# Altium footprint library SamacSys.PcbLib: 9 footprints
Each footprint in its own frame and in the unit in brackets; x right, y up, seen from the top. Pads: shape width x height; smd on the part's side, far side on the other; paste and mask are expansions set on the pad; w line width, h text height; cw(c..) or ccw(c..) is an arc to the next point about the centre after c.
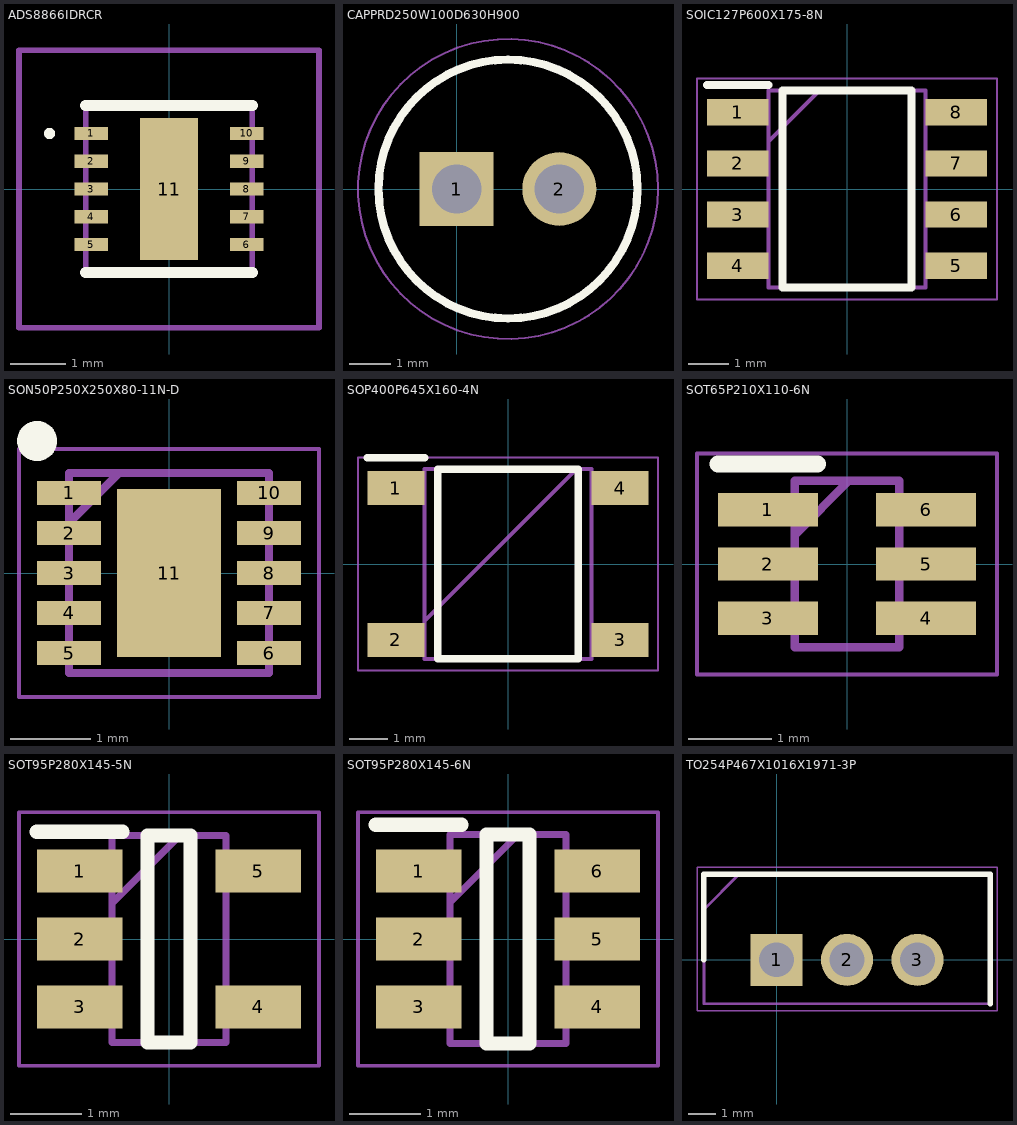
[diagram p0: the footprints below, top view; thin cyan lines are the x and y axes]

## ADS8866IDRCR [mm]
pads (11):
  rect 0.6x0.24 smd: 1(-1.4,1) 2(-1.4,0.5) 3(-1.4,0) 4(-1.4,-0.5) 5(-1.4,-1) 6(1.4,-1) 7(1.4,-0.5) 8(1.4,0) 9(1.4,0.5) 10(1.4,1)
  rect 1.05x2.55 smd: 11(0,0)
Top Overlay:
  lines w0.1: -2.2,1 cw(c-2.15,1) -2.1,1 cw(c-2.15,1) -2.2,1
  lines w0.2: -1.5,-1.5 1.5,-1.5 ; -1.5,1.5 1.5,1.5
Mechanical 13:
  lines w0.1: -1.5,-1.5 -1.5,1.5 1.5,1.5 1.5,-1.5 -1.5,-1.5
Mechanical 15:
  lines w0.1: -2.7,-2.5 -2.7,2.5 2.7,2.5 2.7,-2.5 -2.7,-2.5
3D body "ADS8866IDRCR.stp": height 1.1, standoff 0, extent -1.5,-1.5 1.5,1.5

## CAPPRD250W100D630H900 [mm]
pads (2):
  rect 1.8x1.8 hole 1.2: 1(0,0)
  round 1.8 hole 1.2: 2(2.5,0)
Top Overlay:
  circle w0.2: c1.25,0 r3.15
Mechanical 13:
  circle w0.1: c1.25,0 r3.15
Mechanical 15:
  circle w0.05: c1.25,0 r3.65
3D body "A750EK227M1CAAE016.stp": height 9, standoff -10, extent -2.15,-3.4 4.65,3.4

## SOIC127P600X175-8N [mm]
pads (8):
  rect 1.525x0.65 smd: 1(-2.712,1.905) 2(-2.712,0.635) 3(-2.712,-0.635) 4(-2.712,-1.905) 5(2.712,-1.905) 6(2.712,-0.635) 7(2.712,0.635) 8(2.712,1.905)
Top Overlay:
  lines w0.2: -3.475,2.58 -1.95,2.58 ; -1.6,-2.45 -1.6,2.45 1.6,2.45 1.6,-2.45 -1.6,-2.45
Mechanical 13:
  lines w0.1: -1.95,1.18 -0.68,2.45 ; -1.95,-2.45 -1.95,2.45 1.95,2.45 1.95,-2.45 -1.95,-2.45
Mechanical 15:
  lines w0.05: -3.725,-2.75 -3.725,2.75 3.725,2.75 3.725,-2.75 -3.725,-2.75
3D body "NE555DR.stp": height 1.75, standoff 0, extent -3,-2.45 3,2.45

## SON50P250X250X80-11N-D [mm]
pads (11):
  rect 0.8x0.3 smd: 1(-1.25,1) 2(-1.25,0.5) 3(-1.25,0) 4(-1.25,-0.5) 5(-1.25,-1) 6(1.25,-1) 7(1.25,-0.5) 8(1.25,0) 9(1.25,0.5) 10(1.25,1)
  rect 1.3x2.1 smd: 11(0,0)
Top Overlay:
  circle w0.25: c-1.65,1.65 r0.125
Mechanical 13:
  lines w0.1: -1.25,0.625 -0.625,1.25 ; -1.25,-1.25 -1.25,1.25 1.25,1.25 1.25,-1.25 -1.25,-1.25
Mechanical 15:
  lines w0.05: -1.875,-1.55 -1.875,1.55 1.875,1.55 1.875,-1.55 -1.875,-1.55
3D body "TPS63031DSKT.stp": height 0.8, standoff 0, extent -1.3,-1.25 1.3,1.25

## SOP400P645X160-4N [mm]
pads (4):
  rect 1.5x0.9 smd: 1(-2.95,2) 2(-2.95,-2) 3(2.95,-2) 4(2.95,2)
Top Overlay:
  lines w0.2: -3.7,2.8 -2.2,2.8 ; -1.85,-2.5 -1.85,2.5 1.85,2.5 1.85,-2.5 -1.85,-2.5
Mechanical 13:
  lines w0.1: -2.2,-1.5 1.8,2.5 ; -2.2,-2.5 -2.2,2.5 2.2,2.5 2.2,-2.5 -2.2,-2.5
Mechanical 15:
  lines w0.05: -3.95,-2.8 -3.95,2.8 3.95,2.8 3.95,-2.8 -3.95,-2.8
3D body "ABS10_RG.stp": height 1.6, standoff 0, extent -3.225,-2.5 3.225,2.5

## SOT65P210X110-6N [mm]
pads (6):
  rect 1.2x0.4 smd: 1(-0.95,0.65) 2(-0.95,0) 3(-0.95,-0.65) 4(0.95,-0.65) 5(0.95,0) 6(0.95,0.65)
Top Overlay:
  lines w0.2: -1.55,1.2 -0.35,1.2
Mechanical 13:
  lines w0.1: -0.625,0.35 0.025,1 ; -0.625,-1 -0.625,1 0.625,1 0.625,-1 -0.625,-1
Mechanical 15:
  lines w0.05: -1.8,-1.325 -1.8,1.325 1.8,1.325 1.8,-1.325 -1.8,-1.325
3D body "SN74LVC1G3157DCK3.stp": height 1.1, standoff 0, extent -1.05,-1 1.05,1

## SOT95P280X145-5N [mm]
pads (5):
  rect 1.2x0.6 smd: 1(-1.25,0.95) 2(-1.25,0) 3(-1.25,-0.95) 4(1.25,-0.95) 5(1.25,0.95)
Top Overlay:
  lines w0.2: -1.85,1.5 -0.65,1.5 ; -0.3,-1.45 -0.3,1.45 0.3,1.45 0.3,-1.45 -0.3,-1.45
Mechanical 13:
  lines w0.1: -0.8,0.5 0.15,1.45 ; -0.8,-1.45 -0.8,1.45 0.8,1.45 0.8,-1.45 -0.8,-1.45
Mechanical 15:
  lines w0.05: -2.1,-1.775 -2.1,1.775 2.1,1.775 2.1,-1.775 -2.1,-1.775
3D body "TLV74033PDBVR.stp": height 1.45, standoff 0, extent -1.4,-1.45 1.4,1.45

## SOT95P280X145-6N [mm]
pads (6):
  rect 1.2x0.6 smd: 1(-1.25,0.95) 2(-1.25,0) 3(-1.25,-0.95) 4(1.25,-0.95) 5(1.25,0) 6(1.25,0.95)
Top Overlay:
  lines w0.2: -1.85,1.6 -0.65,1.6 ; -0.3,-1.462 -0.3,1.462 0.3,1.462 0.3,-1.462 -0.3,-1.462
Mechanical 13:
  lines w0.1: -0.812,0.512 0.138,1.462 ; -0.812,-1.462 -0.812,1.462 0.812,1.462 0.812,-1.462 -0.812,-1.462
Mechanical 15:
  lines w0.05: -2.1,-1.775 -2.1,1.775 2.1,1.775 2.1,-1.775 -2.1,-1.775
3D body "USBLC6-2SC6Y.stp": height 1.45, standoff 0, extent -1.4,-1.462 1.4,1.462

## TO254P467X1016X1971-3P [mm]
pads (3):
  rect 1.875x1.875 hole 1.25: 1(0,0)
  round 1.875 hole 1.25: 2(2.54,0) 3(5.08,0)
Top Overlay:
  lines w0.2: -2.615,0 -2.615,3.085 7.695,3.085 7.695,-1.585
Mechanical 13:
  lines w0.1: -2.615,1.815 -1.345,3.085 ; -2.615,-1.585 -2.615,3.085 7.695,3.085 7.695,-1.585 -2.615,-1.585
Mechanical 15:
  lines w0.05: -2.865,-1.835 -2.865,3.335 7.945,3.335 7.945,-1.835 -2.865,-1.835
3D body "LM317.stp": height 18.76, standoff -17.4, extent -2.54,-1.585 7.62,3.085